# Altium schematic symbol library WE-CMAHV.SchLib: 8 symbols
Pins are listed as number, name and electrical type; pins without a type are passive.

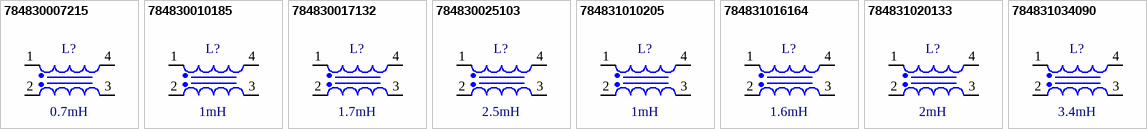
[diagram p0: symbols 784830007215 to 784831034090]

## 784830007215
designator L?, comment 0.7mH
WE-CMAHV Common Mode Choke Automotive High Voltage, THT, size XL, 0.7mH, 21.5A, 3.8mohm; Manufacturer Part Number: 784830007215; Manufacturer: Wurth Elektronik; Category: Common Mode Chokes; Match Code: WE-CMAHV; ComponentLink1Description: Website Link; ComponentLink1URL: https://www.we-online.com/redexpert/article/784830007215?ad; ComponentLink2Description: Datasheet Link; ComponentLink2URL: https://www.we-online.com/redexpert/spec/784830007215?ad; Mount: Through Hole; Operating Temperature Min: -40degC; Operating Temperature Max: 125degC; Packaging: Tray; Case/Size Code: XL; Length: 42.5mm; Width: 23mm; Height: 39.5mm; Rated Current: 21.5A; Automotive: Yes; DC Resistance: 3.8mohm; Inductance: 0.7mH
footprint XL_784830007215
pins: 1, 2, 3, 4

## 784830010185
designator L?, comment 1mH
WE-CMAHV Common Mode Choke Automotive High Voltage, THT, size XL, 1mH, 18.5A, 5.5mohm; Manufacturer Part Number: 784830010185; Manufacturer: Wurth Elektronik; Category: Common Mode Chokes; Match Code: WE-CMAHV; ComponentLink1Description: Website Link; ComponentLink1URL: https://www.we-online.com/redexpert/article/784830010185?ad; ComponentLink2Description: Datasheet Link; ComponentLink2URL: https://www.we-online.com/redexpert/spec/784830010185?ad; Mount: Through Hole; Operating Temperature Min: -40degC; Operating Temperature Max: 125degC; Packaging: Tray; Case/Size Code: XL; Length: 41.5mm; Width: 23mm; Height: 39.5mm; Rated Current: 18.5A; Automotive: Yes; DC Resistance: 5.5mohm; Inductance: 1mH
footprint XL_784830010185
pins: 1, 2, 3, 4

## 784830017132
designator L?, comment 1.7mH
WE-CMAHV Common Mode Choke Automotive High Voltage, THT, size XL, 1.7mH, 13.2A, 10mohm; Manufacturer Part Number: 784830017132; Manufacturer: Wurth Elektronik; Category: Common Mode Chokes; Match Code: WE-CMAHV; ComponentLink1Description: Website Link; ComponentLink1URL: https://www.we-online.com/redexpert/article/784830017132?ad; ComponentLink2Description: Datasheet Link; ComponentLink2URL: https://www.we-online.com/redexpert/spec/784830017132?ad; Mount: Through Hole; Operating Temperature Min: -40degC; Operating Temperature Max: 125degC; Packaging: Tray; Case/Size Code: XL; Length: 40mm; Width: 23mm; Height: 39.5mm; Rated Current: 13.2A; Automotive: Yes; DC Resistance: 10mohm; Inductance: 1.7mH
footprint XL_784830017132
pins: 1, 2, 3, 4

## 784830025103
designator L?, comment 2.5mH
WE-CMAHV Common Mode Choke Automotive High Voltage, THT, size XL, 2.5mH, 10.3A, 18mohm; Manufacturer Part Number: 784830025103; Manufacturer: Wurth Elektronik; Category: Common Mode Chokes; Match Code: WE-CMAHV; ComponentLink1Description: Website Link; ComponentLink1URL: https://www.we-online.com/redexpert/article/784830025103?ad; ComponentLink2Description: Datasheet Link; ComponentLink2URL: https://www.we-online.com/redexpert/spec/784830025103?ad; Mount: Through Hole; Operating Temperature Min: -40degC; Operating Temperature Max: 125degC; Packaging: Tray; Case/Size Code: XL; Length: 39.5mm; Width: 23mm; Height: 39.5mm; Rated Current: 10.3A; Automotive: Yes; DC Resistance: 18mohm; Inductance: 2.5mH
footprint XL_784830025103
pins: 1, 2, 3, 4

## 784831010205
designator L?, comment 1mH
WE-CMAHV Common Mode Choke Automotive High Voltage, THT, size XXL, 1mH, 20.5A, 5.5mohm; Manufacturer Part Number: 784831010205; Manufacturer: Wurth Elektronik; Category: Common Mode Chokes; Match Code: WE-CMAHV; ComponentLink1Description: Website Link; ComponentLink1URL: https://www.we-online.com/redexpert/article/784831010205?ad; ComponentLink2Description: Datasheet Link; ComponentLink2URL: https://www.we-online.com/redexpert/spec/784831010205?ad; Mount: Through Hole; Operating Temperature Min: -40degC; Operating Temperature Max: 125degC; Packaging: Tray; Case/Size Code: XXL; Length: 46.5mm; Width: 28mm; Height: 44.5mm; Rated Current: 20.5A; Automotive: Yes; DC Resistance: 5.5mohm; Inductance: 1mH
footprint XXL_784831010205
pins: 1, 2, 3, 4

## 784831016164
designator L?, comment 1.6mH
WE-CMAHV Common Mode Choke Automotive High Voltage, THT, size XXL, 1.6mH, 16.4A, 8.5mohm; Manufacturer Part Number: 784831016164; Manufacturer: Wurth Elektronik; Category: Common Mode Chokes; Match Code: WE-CMAHV; ComponentLink1Description: Website Link; ComponentLink1URL: https://www.we-online.com/redexpert/article/784831016164?ad; ComponentLink2Description: Datasheet Link; ComponentLink2URL: https://www.we-online.com/redexpert/spec/784831016164?ad; Mount: Through Hole; Operating Temperature Min: -40degC; Operating Temperature Max: 125degC; Packaging: Tray; Case/Size Code: XXL; Length: 46.5mm; Width: 28mm; Height: 44.5mm; Rated Current: 16.4A; Automotive: Yes; DC Resistance: 8.5mohm; Inductance: 1.6mH
footprint XXL_784831016164
pins: 1, 2, 3, 4

## 784831020133
designator L?, comment 2mH
WE-CMAHV Common Mode Choke Automotive High Voltage, THT, size XXL, 2mH, 13.3A, 13mohm; Manufacturer Part Number: 784831020133; Manufacturer: Wurth Elektronik; Category: Common Mode Chokes; Match Code: WE-CMAHV; ComponentLink1Description: Website Link; ComponentLink1URL: https://www.we-online.com/redexpert/article/784831020133?ad; ComponentLink2Description: Datasheet Link; ComponentLink2URL: https://www.we-online.com/redexpert/spec/784831020133?ad; Mount: Through Hole; Operating Temperature Min: -40degC; Operating Temperature Max: 125degC; Packaging: Tray; Case/Size Code: XXL; Length: 45.5mm; Width: 28mm; Height: 44.5mm; Rated Current: 13.3A; Automotive: Yes; DC Resistance: 13mohm; Inductance: 2mH
footprint XXL_784831020133
pins: 1, 2, 3, 4

## 784831034090
designator L?, comment 3.4mH
WE-CMAHV Common Mode Choke Automotive High Voltage, THT, size XXL, 3.4mH, 9A, 27mohm; Manufacturer Part Number: 784831034090; Manufacturer: Wurth Elektronik; Category: Common Mode Chokes; Match Code: WE-CMAHV; ComponentLink1Description: Website Link; ComponentLink1URL: https://www.we-online.com/redexpert/article/784831034090?ad; ComponentLink2Description: Datasheet Link; ComponentLink2URL: https://www.we-online.com/redexpert/spec/784831034090?ad; Mount: Through Hole; Operating Temperature Min: -40degC; Operating Temperature Max: 125degC; Packaging: Tray; Case/Size Code: XXL; Length: 44.5mm; Width: 28mm; Height: 44.5mm; Rated Current: 9A; Automotive: Yes; DC Resistance: 27mohm; Inductance: 3.4mH
footprint XXL_784831034090
pins: 1, 2, 3, 4